# Altium schematic symbol library connector_10pin.SchLib: 1 symbol
Pins are listed as number, name and electrical type; pins without a type are passive.

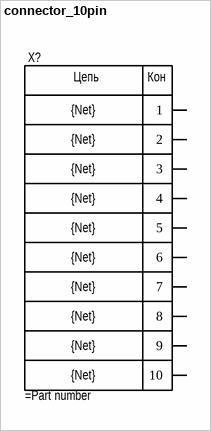
[diagram p0: symbol connector_10pin]

## connector_10pin
designator X?  Parameter 10: {Net}
Parameter 9: {Net}; Parameter 1: {Net}; Parameter 2: {Net}; Parameter 3: {Net}; Parameter 4: {Net}; Parameter 5: {Net}; Parameter 6: {Net}; Parameter 7: {Net}; Parameter 8: {Net}
pins: 1, 2, 3, 4, 5, 6, 7, 8, 9, 10
text: Цепь; Кон